# EAGLE library part MABC30 (library con-vg)
Male Connector C/3, 30 Solder DIN EN 60 603-02 Source: www.erni.com .. 424189.pdf
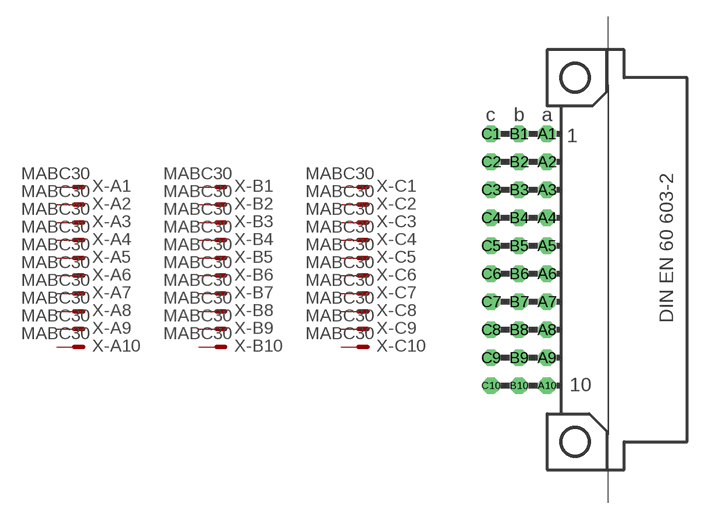
[diagram p120: symbol with the pads of MABC30; footprint MABC30]

Designator prefix X; gates -A1=MVAL -A2=MVAL -A3=MVAL -A4=MVAL -A5=MVAL -A6=MVAL -A7=MVAL -A8=MVAL -A9=MVAL -A10=MVAL -B1=MVAL -B2=MVAL -B3=MVAL -B4=MVAL -B5=MVAL -B6=MVAL -B7=MVAL -B8=MVAL -B9=MVAL -B10=MVAL -C1=MVAL -C2=MVAL -C3=MVAL -C4=MVAL -C5=MVAL -C6=MVAL -C7=MVAL -C8=MVAL -C9=MVAL -C10=MVAL

## MABC30  [MABC30]
A1  -A1:S  pas
A2  -A2:S  pas
A3  -A3:S  pas
A4  -A4:S  pas
A5  -A5:S  pas
A6  -A6:S  pas
A7  -A7:S  pas
A8  -A8:S  pas
A9  -A9:S  pas
A10  -A10:S  pas
B1  -B1:S  pas
B2  -B2:S  pas
B3  -B3:S  pas
B4  -B4:S  pas
B5  -B5:S  pas
B6  -B6:S  pas
B7  -B7:S  pas
B8  -B8:S  pas
B9  -B9:S  pas
B10  -B10:S  pas
C1  -C1:S  pas
C2  -C2:S  pas
C3  -C3:S  pas
C4  -C4:S  pas
C5  -C5:S  pas
C6  -C6:S  pas
C7  -C7:S  pas
C8  -C8:S  pas
C9  -C9:S  pas
C10  -C10:S  pas

## Footprint MABC30 (pad centres in mm)
Male Connector C/3, 30 Solder Source: www.erni.com .. 424189.pdf
drill 1.016 pad 1.5 octagon: A1 0,11.43; A2 0,8.89; A3 0,6.35; A4 0,3.81; A5 0,1.27; A6 0,-1.27; A7 0,-3.81; A8 0,-6.35; A9 0,-8.89; A10 0,-11.43; B1 -2.54,11.43; B2 -2.54,8.89; B3 -2.54,6.35; B4 -2.54,3.81; B5 -2.54,1.27; B6 -2.54,-1.27; B7 -2.54,-3.81; B8 -2.54,-6.35; B9 -2.54,-8.89; B10 -2.54,-11.43; C1 -5.08,11.43; C2 -5.08,8.89; C3 -5.08,6.35; C4 -5.08,3.81; C5 -5.08,1.27; C6 -5.08,-1.27; C7 -5.08,-3.81; C8 -5.08,-6.35; C9 -5.08,-8.89; C10 -5.08,-11.43
hole 2.794 at 2.54,16.51
hole 2.794 at 2.54,-16.51